# EAGLE library part LTC4002ES8-4.2#TRPBF (library Battery Chargers)
Charger IC Lithium-Ion 8-SOIC Manufacturer's datasheet <https://www.analog.com/media/en/technical-documentation/data-sheets/4002f.pdf>
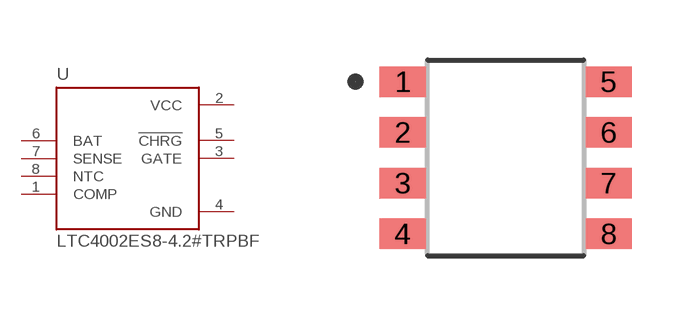
[diagram p15: symbol with the pads of LTC4002ES8-4.2#TRPBF; footprint LTC4002ES8-4.2#TRPBF]

Designator prefix U

## LTC4002ES8-4.2#TRPBF (CREATED_BY: PCBLayout.com; DIGIKEY_PART_NUMBER: LTC4002ES8-4.2#TRPBFCT-ND; MANUFACTURER: Linear Technology/Analog Devices; MPN: LTC4002ES8-4.2#TRPBF; PACKAGE: 8-SOIC)  [LTC4002ES8-4.2#TRPBF]
1  COMP  pas
2  VCC  pwr
3  GATE  out
4  GND  pwr
5  !CHRG  out
6  BAT  in
7  SENSE  in
8  NTC  in

## Footprint LTC4002ES8-4.2#TRPBF (pad centres in mm)
smd 1.15 x 0.762: 1 -2.575,1.905; 2 -2.575,0.635; 3 -2.575,-0.635; 4 -2.575,-1.905; 5 2.575,1.905; 6 2.575,0.635; 7 2.575,-0.635; 8 2.575,-1.905